# EAGLE library part I2C_FXMA2102 (library 04_IC)
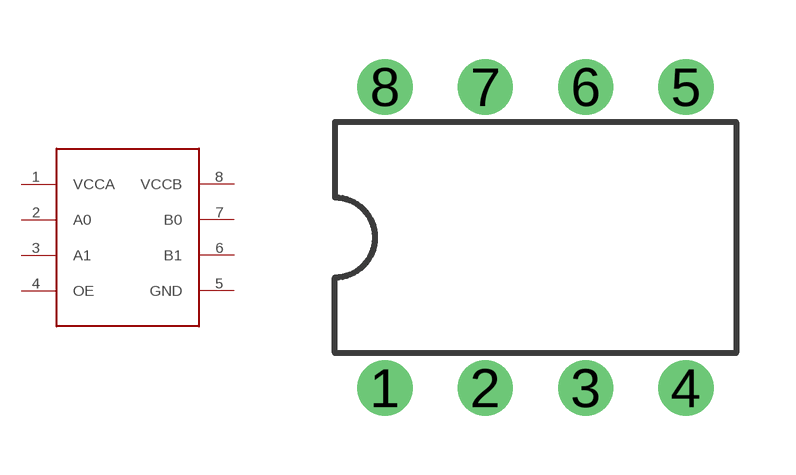
[diagram p5: symbol with the pads of DIL08; footprint DIL08]

Designator prefix -

## I2C_FXMA2102  [DIL08]
1  VCCA
2  A0
3  A1
4  OE
5  GND
6  B1
7  B0
8  VCCB

## Footprint DIL08 (pad centres in mm)
Dual In Line Package
drill 0.8 pad 1.4: 1 -3.81,-3.81; 2 -1.27,-3.81; 3 1.27,-3.81; 4 3.81,-3.81; 5 3.81,3.81; 6 1.27,3.81; 7 -1.27,3.81; 8 -3.81,3.81